# EAGLE library part 4NXXM-OPTOISOLATOR (library BaseApp)
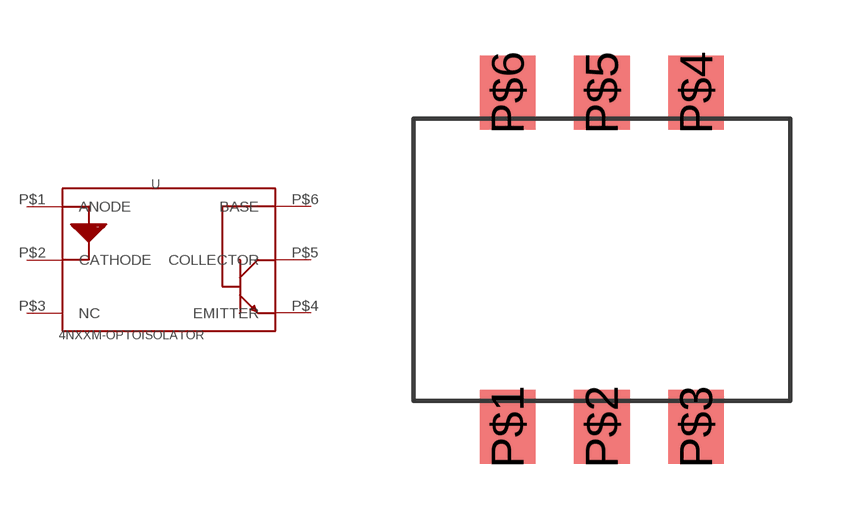
[diagram p77: symbol with the pads of 6-SMD_GULL-WING; footprint 6-SMD_GULL-WING]

Designator prefix -

## 4NXXM-OPTOISOLATOR  [6-SMD_GULL-WING]
P$1  ANODE
P$2  CATHODE
P$3  NC
P$4  EMITTER
P$5  COLLECTOR
P$6  BASE

## Footprint 6-SMD_GULL-WING (pad centres in mm)
smd 1.5 x 2: P$1 -2.54,-4.505; P$2 0,-4.505; P$3 2.54,-4.505; P$4 2.54,4.505; P$5 0,4.505; P$6 -2.54,4.505